# Altium schematic symbol library NJM2845DL1-33-TE1.SchLib: 1 symbol
Pins are listed as number, name and electrical type; pins without a type are passive.

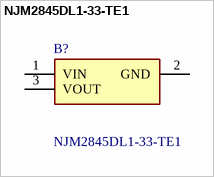
[diagram p0: symbol NJM2845DL1-33-TE1]

## NJM2845DL1-33-TE1
designator B?
LDO Voltage Regulators 75dB 45uVrms 800mA 1.0uF 3.3V 1W; Manufacturer_Name: Nisshinbo; Geometry.Height: 2.38mm; Manufacturer_Part_Number: NJM2845DL1-33-TE1; Mouser Part Number: 513-NJM2845DL133-TE1; Mouser Price/Stock: https://www.mouser.co.uk/ProductDetail/Nisshinbo/NJM2845DL1-33-TE1?qs=Vf9KeiGtj%252BHsxdmME1E7bA%3D%3D; Arrow Part Number: *; Arrow Price/Stock: *; Datasheet Link: https://www.nisshinbo-microdevices.co.jp/en/pdf/datasheet/NJM2845_NJM2846_E.pdf
footprint NJM2845DL133TE1
pins: 1 VIN, 2 GND, 3 VOUT